# EAGLE library part LM13700 (library parts)
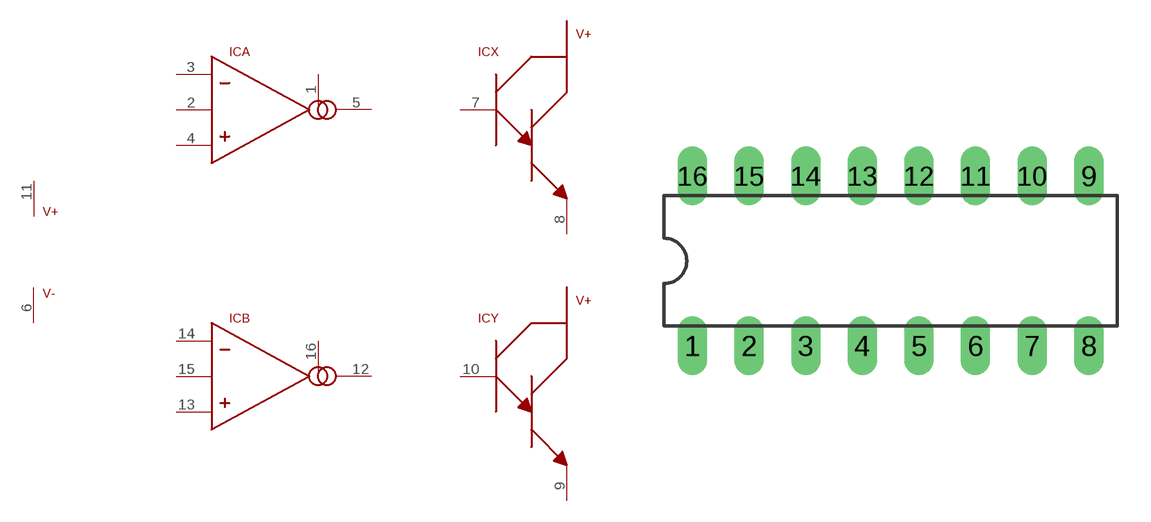
[diagram p1: symbol with the pads of DIL16; footprint DIL16]

Designator prefix IC; gates Z=LM13700_PWR A=LM13700_OTA B=LM13700_OTA X=LM13700_BUF Y=LM13700_BUF

## LM13700  [DIL16]
1  A:AMP_BIAS
2  A:DIODE_BIAS
3  A:+
4  A:-
5  A:OUT
6  Z:V-
7  X:INPUT
8  X:OUTPUT
9  Y:OUTPUT
10  Y:INPUT
11  Z:V+
12  B:OUT
13  B:-
14  B:+
15  B:DIODE_BIAS
16  B:AMP_BIAS

## Footprint DIL16 (pad centres in mm)
Dual In Line Package
drill 0.813 long: 1 -8.89,-3.81; 2 -6.35,-3.81; 3 -3.81,-3.81; 4 -1.27,-3.81; 5 1.27,-3.81; 6 3.81,-3.81; 7 6.35,-3.81; 8 8.89,-3.81; 9 8.89,3.81; 10 6.35,3.81; 11 3.81,3.81; 12 1.27,3.81; 13 -1.27,3.81; 14 -3.81,3.81; 15 -6.35,3.81; 16 -8.89,3.81